# EAGLE library part 24LC014-I/MS (library Microchip_By_element14_Batch_1)
IC,SERIAL EEPROM,128X8,CMOS
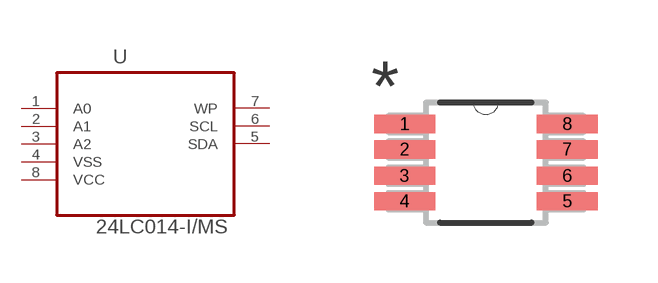
[diagram p35: symbol with the pads of SOP65P490X110-8N; footprint SOP65P490X110-8N]

Designator prefix U

## 24LC014-I/MS (MPN: 24LC014-I/MS; OC_FARNELL: -; OC_NEWARK: 30H1478; PACKAGE: 8MSOP; SUPPLIER: Microchip)  [SOP65P490X110-8N]
1  A0  in
2  A1  in
3  A2  in
4  VSS  pas
5  SDA
6  SCL  in
7  WP  in
8  VCC  pwr

## Footprint SOP65P490X110-8N (pad centres in mm)
smd 1.524 x 0.457: 1 -2.032,0.965; 2 -2.032,0.33; 3 -2.032,-0.33; 4 -2.032,-0.965; 5 2.032,-0.965; 6 2.032,-0.33; 7 2.032,0.33; 8 2.032,0.965